# Altium footprint library PcbLib1.PcbLib: 1 footprints
Each footprint in its own frame and in the unit in brackets; x right, y up, seen from the top. Pads: shape width x height; smd on the part's side, far side on the other; paste and mask are expansions set on the pad; w line width, h text height; cw(c..) or ccw(c..) is an arc to the next point about the centre after c.
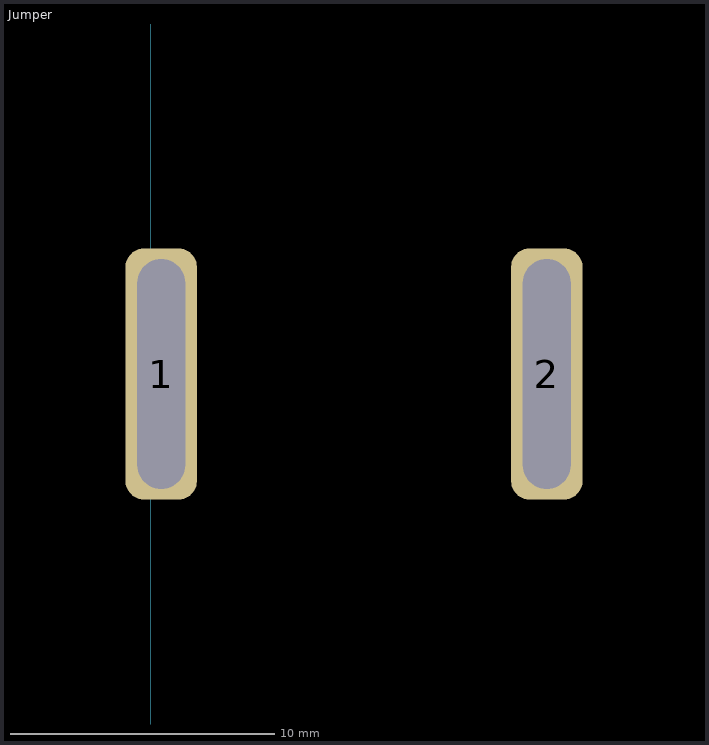
[diagram p0: the footprint, top view; thin cyan lines are the x and y axes]

## Jumper [mm]
pads (2):
  rrect50% 2.7x9.5 hole 1.8 slot 8.7 at 90 deg: 1(0.4,-18.1) 2(15,-18.1)
3D body "https___ihiconnectors.com_STP FILES_15810.stp": height 5.61, standoff -1.83, extent -0.381,-21.971 15.85,-14.351